# EAGLE library part X__JST_PH_STEHEND_5 (library ___connector)
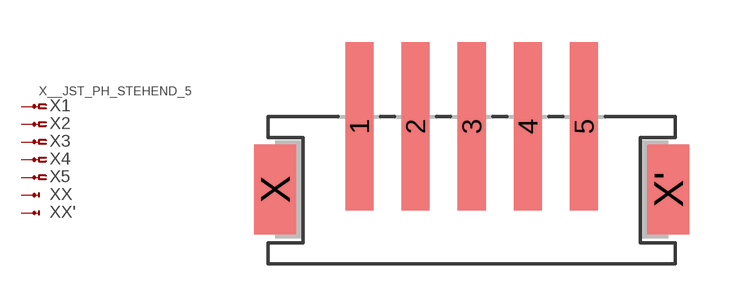
[diagram p5: symbol with the pads of JST_PH_STEHEND_5; footprint JST_PH_STEHEND_5]

Designator prefix X; gates 1=PHPIN-NV X=PHPIN-X X'=PHPIN-X 2=PHPIN-N 3=PHPIN-N 4=PHPIN-N 5=PHPIN-N

## X__JST_PH_STEHEND_5  [JST_PH_STEHEND_5]
1  1:1  pas
2  2:1  pas
3  3:1  pas
4  4:1  pas
5  5:1  pas
X  X:1  pas
X'  X':1  pas

## Footprint JST_PH_STEHEND_5 (pad centres in mm)
smd 1 x 6: 1 0,-0.1; 2 2,-0.1; 3 4,-0.1; 4 6,-0.1; 5 8,-0.1
smd 1.5 x 3.2: X -3,-2.35; X' 11,-2.35